# EAGLE library part SN65HVD235 (library SN65HVD235)
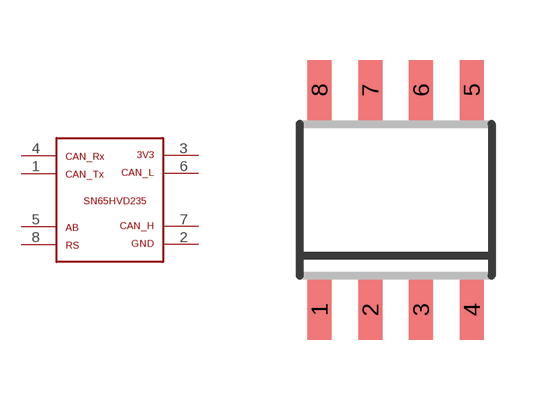
[diagram p0: symbol with the pads of SOIC8; footprint SOIC8]

Designator prefix -

## SN65HVD235  [SOIC8]
1  P$2
2  P$5
3  P$8
4  P$1
5  P$3
6  P$7
7  P$6
8  P$4

## Footprint SOIC8 (pad centres in mm)
SOIC-8 CASE 751-07 Source: http://www.onsemi.com/pub/Collateral/MC34164-D.PDF D (R-PDSO-G8)PLATIC SMALL-OUTLINE PACKAGE Source: http://focus.ti.com/lit/ds/symlink/tlc27l2.pdf
smd 0.6 x 1.5: 1 -1.905,-2.75; 2 -0.635,-2.75; 3 0.635,-2.75; 4 1.905,-2.75; 5 1.905,2.75; 6 0.635,2.75; 7 -0.635,2.75; 8 -1.905,2.75